# Altium schematic symbol library RP2xxx_Stamp.SchLib: 3 symbols
Pins are listed as number, name and electrical type; pins without a type are passive.

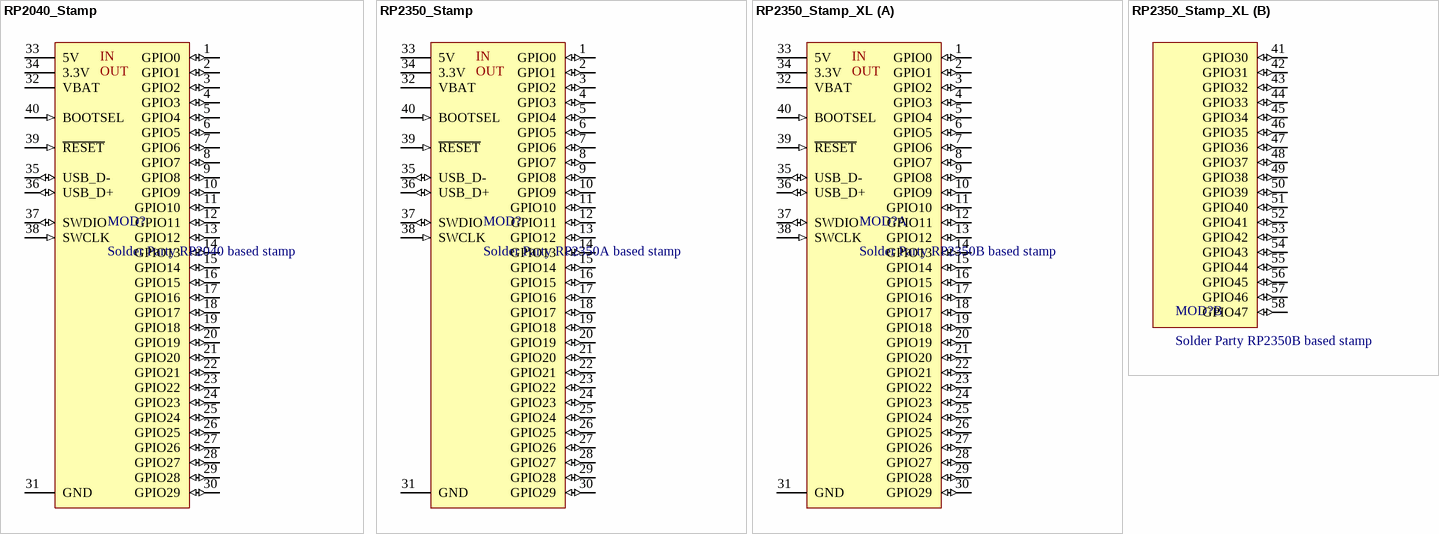
[diagram p0: symbols RP2040_Stamp to RP2350_Stamp_XL]

## RP2040_Stamp
designator MOD?, comment Solder Party RP2040 based stamp
pins: 1 GPIO0 (io), 2 GPIO1 (io), 3 GPIO2 (io), 4 GPIO3 (io), 5 GPIO4 (io), 6 GPIO5 (io), 7 GPIO6 (io), 8 GPIO7 (io), 9 GPIO8 (io), 10 GPIO9 (io), 11 GPIO10 (io), 12 GPIO11 (io), 13 GPIO12 (io), 14 GPIO13 (io), 15 GPIO14 (io), 16 GPIO15 (io), 17 GPIO16 (io), 18 GPIO17 (io), 19 GPIO18 (io), 20 GPIO19 (io), 21 GPIO20 (io), 22 GPIO21 (io), 23 GPIO22 (io), 24 GPIO23 (io), 25 GPIO24 (io), 26 GPIO25 (io), 27 GPIO26 (io), 28 GPIO27 (io), 29 GPIO28 (io), 30 GPIO29 (io), 31 GND (power), 32 VBAT (power), 33 5V (power), 34 3.3V (power), 35 USB_D- (io), 36 USB_D+ (io), 37 SWDIO (io), 38 SWCLK (in), 39 ~{RESET} (in), 40 BOOTSEL (in)
text: IN; OUT

## RP2350_Stamp
designator MOD?, comment Solder Party RP2350A based stamp
pins: 1 GPIO0 (io), 2 GPIO1 (io), 3 GPIO2 (io), 4 GPIO3 (io), 5 GPIO4 (io), 6 GPIO5 (io), 7 GPIO6 (io), 8 GPIO7 (io), 9 GPIO8 (io), 10 GPIO9 (io), 11 GPIO10 (io), 12 GPIO11 (io), 13 GPIO12 (io), 14 GPIO13 (io), 15 GPIO14 (io), 16 GPIO15 (io), 17 GPIO16 (io), 18 GPIO17 (io), 19 GPIO18 (io), 20 GPIO19 (io), 21 GPIO20 (io), 22 GPIO21 (io), 23 GPIO22 (io), 24 GPIO23 (io), 25 GPIO24 (io), 26 GPIO25 (io), 27 GPIO26 (io), 28 GPIO27 (io), 29 GPIO28 (io), 30 GPIO29 (io), 31 GND (power), 32 VBAT (power), 33 5V (power), 34 3.3V (power), 35 USB_D- (io), 36 USB_D+ (io), 37 SWDIO (io), 38 SWCLK (in), 39 ~{RESET} (in), 40 BOOTSEL (in)
text: IN; OUT

## RP2350_Stamp_XL
designator MOD?, comment Solder Party RP2350B based stamp
part A pins: 1 GPIO0 (io), 2 GPIO1 (io), 3 GPIO2 (io), 4 GPIO3 (io), 5 GPIO4 (io), 6 GPIO5 (io), 7 GPIO6 (io), 8 GPIO7 (io), 9 GPIO8 (io), 10 GPIO9 (io), 11 GPIO10 (io), 12 GPIO11 (io), 13 GPIO12 (io), 14 GPIO13 (io), 15 GPIO14 (io), 16 GPIO15 (io), 17 GPIO16 (io), 18 GPIO17 (io), 19 GPIO18 (io), 20 GPIO19 (io), 21 GPIO20 (io), 22 GPIO21 (io), 23 GPIO22 (io), 24 GPIO23 (io), 25 GPIO24 (io), 26 GPIO25 (io), 27 GPIO26 (io), 28 GPIO27 (io), 29 GPIO28 (io), 30 GPIO29 (io), 31 GND (power), 32 VBAT (power), 33 5V (power), 34 3.3V (power), 35 USB_D- (io), 36 USB_D+ (io), 37 SWDIO (io), 38 SWCLK (in), 39 ~{RESET} (in), 40 BOOTSEL (in)
part B pins: 41 GPIO30 (io), 42 GPIO31 (io), 43 GPIO32 (io), 44 GPIO33 (io), 45 GPIO34 (io), 46 GPIO35 (io), 47 GPIO36 (io), 48 GPIO37 (io), 49 GPIO38 (io), 50 GPIO39 (io), 51 GPIO40 (io), 52 GPIO41 (io), 53 GPIO42 (io), 54 GPIO43 (io), 55 GPIO44 (io), 56 GPIO45 (io), 57 GPIO46 (io), 58 GPIO47 (io)
part A text: IN; OUT